# EAGLE library part ADACP2104 (library me 433 2021)
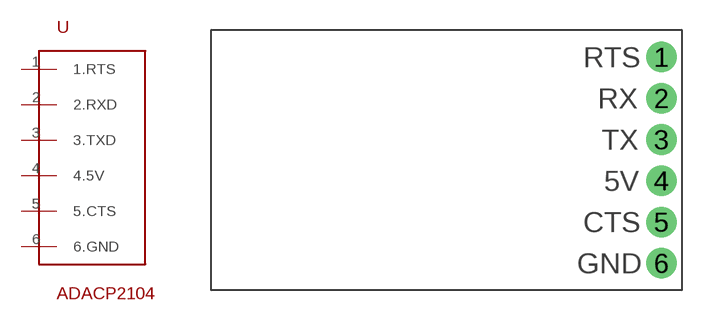
[diagram p16: symbol with the pads of ADACP2104; footprint ADACP2104]

Designator prefix -

## ADACP2104  [ADACP2104]
1  1.RTS
2  2.RXD
3  3.TXD
4  4.5V
5  5.CTS
6  6.GND

## Footprint ADACP2104 (pad centres in mm)
drill 1.016 pad 1.88: 1 0,6.35; 2 0,3.81; 3 0,1.27; 4 0,-1.27; 5 0,-3.81; 6 0,-6.35